# EAGLE library part MC1648 (library ic)
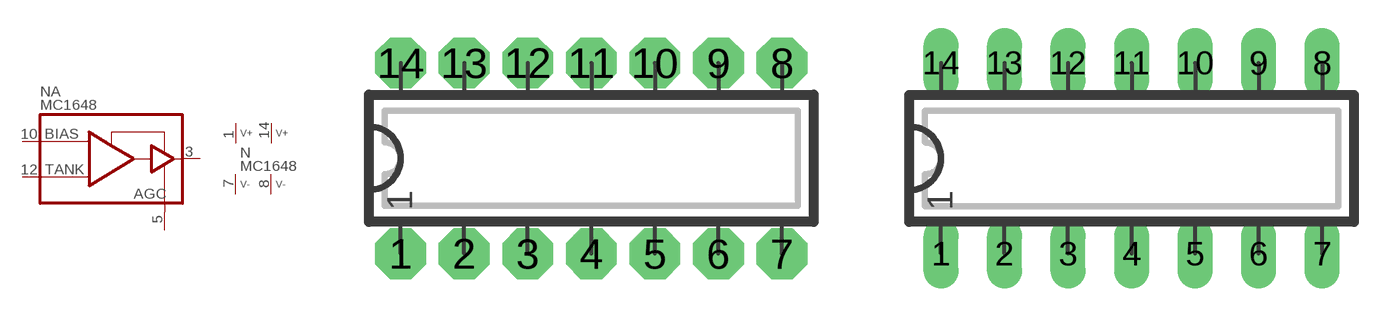
[diagram p26: symbol with the pads of DIP14N; footprints DIP14N, DIP14L]

Designator prefix N; gates A=MC1648 P=V2+2-

## MC1648N  [DIP14N]
1  P:V+1  pwr
3  A:OUT  out
5  A:AGC  pas
7  P:V-1  pwr
8  P:V-2  pwr
10  A:BIAS  pas
12  A:TANK  pas
14  P:V+2  pwr

## MC1648  [DIP14L]
Pads as for DIP14N

## MC1648L  [DIP14L]
Pads as for DIP14N

## MC1648R  [DIP14R]
Pads as for DIP14N

## Footprint DIP14N (pad centres in mm)
DIP-14 Standard IC package, 14 pins
drill 0.813 pad 2.032 octagon: 1 -7.62,-3.81; 2 -5.08,-3.81; 3 -2.54,-3.81; 4 0,-3.81; 5 2.54,-3.81; 6 5.08,-3.81; 7 7.62,-3.81; 8 7.62,3.81; 9 5.08,3.81; 10 2.54,3.81; 11 0,3.81; 12 -2.54,3.81; 13 -5.08,3.81; 14 -7.62,3.81

## Footprint DIP14L (pad centres in mm)
DIP-14, long pads Standard IC package, 14 pins
drill 0.813 pad 1.397 long: 1 -7.62,-3.81; 2 -5.08,-3.81; 3 -2.54,-3.81; 4 0,-3.81; 5 2.54,-3.81; 6 5.08,-3.81; 7 7.62,-3.81; 8 7.62,3.81; 9 5.08,3.81; 10 2.54,3.81; 11 0,3.81; 12 -2.54,3.81; 13 -5.08,3.81; 14 -7.62,3.81

## Footprint DIP14R (pad centres in mm)
DIP-14, reduced pads Standard IC package, 14 pins
drill 0.813 pad 1.397 square: 1 -7.62,-3.81; 2 -5.08,-3.81; 3 -2.54,-3.81; 4 0,-3.81; 5 2.54,-3.81; 6 5.08,-3.81; 7 7.62,-3.81; 8 7.62,3.81; 9 5.08,3.81; 10 2.54,3.81; 11 0,3.81; 12 -2.54,3.81; 13 -5.08,3.81; 14 -7.62,3.81